# EAGLE library part POGOPIN-BACKBOARD (library Protofusion)
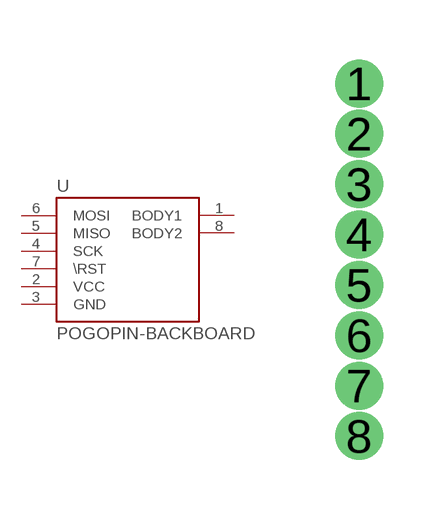
[diagram p6: symbol with the pads of POGOPROG-BACKMOUNT; footprint POGOPROG-BACKMOUNT]

Designator prefix -

## POGOPIN-BACKBOARD  [POGOPROG-BACKMOUNT]
1  BODY1
2  VCC
3  GND
4  SCK
5  MISO
6  MOSI
7  \RST
8  BODY2

## Footprint POGOPROG-BACKMOUNT (pad centres in mm)
drill 0.7: 1 0,8.941; 2 0,7.671; 3 0,6.401; 4 0,5.131; 5 0,3.861; 6 0,2.591; 7 0,1.321; 8 0,0.051